# Altium footprint library RESC3046X055.PcbLib: 3 footprints
Each footprint in its own frame and in the unit in brackets; x right, y up, seen from the top. Pads: shape width x height; smd on the part's side, far side on the other; paste and mask are expansions set on the pad; w line width, h text height; cw(c..) or ccw(c..) is an arc to the next point about the centre after c.
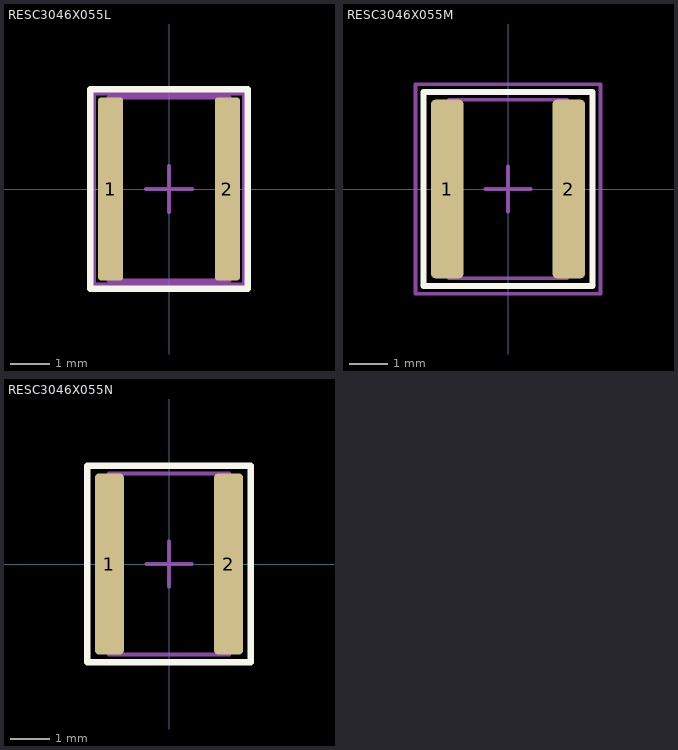
[diagram p0: the footprints below, top view; thin cyan lines are the x and y axes]

## RESC3046X055L [mm] "Resistors, Chip"
height 0.65
pads (2):
  rrect25% 0.63x4.6 smd: 1(-1.465,0) 2(1.465,0)
Top Overlay:
  lines w0.16: -1.98,-2.5 1.98,-2.5 1.98,2.5 -1.98,2.5 -1.98,-2.5
Top Component Center:
  lines w0.1: -0.575,0 0.575,0 ; 0,-0.575 0,0.575
Top Courtyard:
  lines w0.1: -1.88,-2.4 1.88,-2.4 1.88,2.4 -1.88,2.4 -1.88,-2.4
Top Assembly:
  lines w0.1: -1.525,-2.3 1.525,-2.3 1.525,2.3 -1.525,2.3 -1.525,-2.3
  text ".Designator" at 0,0 h1
3D body "RESC3046X055L.STEP": height 0.55, standoff 0, extent -1.525,-2.3 1.525,2.3

## RESC3046X055M [mm] "Resistors, Chip"
height 0.65
pads (2):
  rrect25% 0.83x4.6 smd: 1(-1.565,0) 2(1.565,0)
Top Overlay:
  lines w0.16: -2.18,-2.5 2.18,-2.5 2.18,2.5 -2.18,2.5 -2.18,-2.5
Top Component Center:
  lines w0.1: -0.575,0 0.575,0 ; 0,-0.575 0,0.575
Top Courtyard:
  lines w0.1: -2.38,-2.7 2.38,-2.7 2.38,2.7 -2.38,2.7 -2.38,-2.7
Top Assembly:
  lines w0.1: -1.525,-2.3 1.525,-2.3 1.525,2.3 -1.525,2.3 -1.525,-2.3
  text ".Designator" at 0,0 h1
3D body "RESC3046X055M.STEP": height 0.55, standoff 0, extent -1.525,-2.3 1.525,2.3

## RESC3046X055N [mm] "Resistors, Chip"
height 0.65
pads (2):
  rrect25% 0.73x4.6 smd: 1(-1.515,0) 2(1.515,0)
Top Overlay:
  lines w0.16: -2.08,-2.5 2.08,-2.5 2.08,2.5 -2.08,2.5 -2.08,-2.5
Top Component Center:
  lines w0.1: -0.575,0 0.575,0 ; 0,-0.575 0,0.575
Top Courtyard:
  lines w0.1: -2.08,-2.5 2.08,-2.5 2.08,2.5 -2.08,2.5 -2.08,-2.5
Top Assembly:
  lines w0.1: -1.525,-2.3 1.525,-2.3 1.525,2.3 -1.525,2.3 -1.525,-2.3
  text ".Designator" at 0,0 h1
3D body "RESC3046X055N.STEP": height 0.55, standoff 0, extent -1.525,-2.3 1.525,2.3